# EAGLE library part ISO150 (library burr-brown)
Dual, Isolated, Bi-Directional Digital Coupler
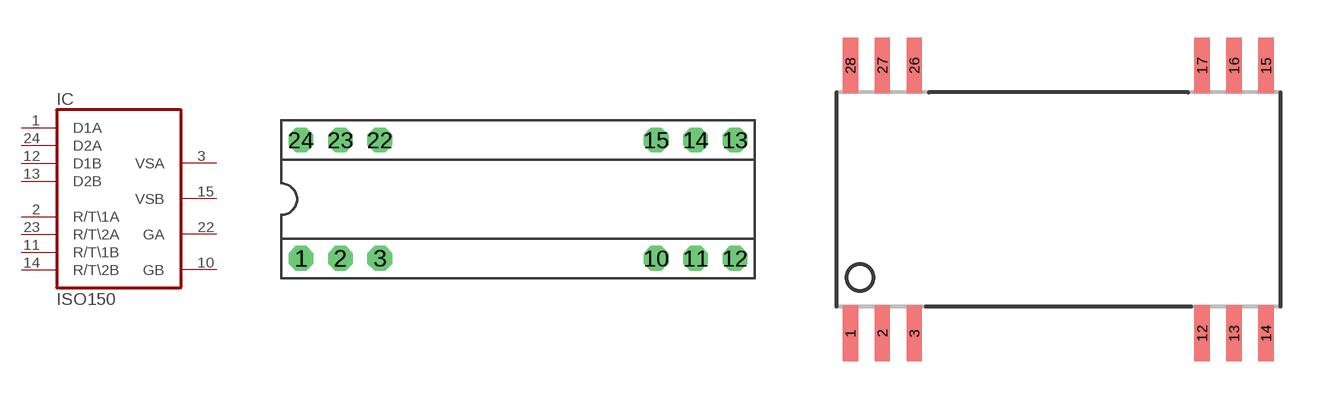
[diagram p166: symbol with the pads of DIL24/12; footprints DIL24/12, SO28-3/12]

Designator prefix IC

## ISO150P  [DIL24/12]
1  D1A
2  R/T\1A  in
3  VSA  pwr
10  GB  pwr
11  R/T\1B  in
12  D1B
13  D2B
14  R/T\2B  in
15  VSB  pwr
22  GA  pwr
23  R/T\2A  in
24  D2A

## ISO150U  [SO28-3/12]
1  D1A
2  R/T\1A  in
3  VSA  pwr
12  GB  pwr
13  R/T\1B  in
14  D1B
15  D2B
16  R/T\2B  in
17  VSB  pwr
26  GA  pwr
27  R/T\2A  in
28  D2A

## Footprint DIL24/12 (pad centres in mm)
Dual In Line
drill 0.813 pad 1.6 octagon: 1 -13.97,-3.81; 2 -11.43,-3.81; 3 -8.89,-3.81; 10 8.89,-3.81; 11 11.43,-3.81; 12 13.97,-3.81; 13 13.97,3.81; 14 11.43,3.81; 15 8.89,3.81; 22 -8.89,3.81; 23 -11.43,3.81; 24 -13.97,3.81

## Footprint SO28-3/12 (pad centres in mm)
Small Outline Package
smd 0.61 x 2.21: 1 -8.255,-5.315; 2 -6.985,-5.315; 3 -5.715,-5.315; 12 5.715,-5.315; 13 6.985,-5.315; 14 8.255,-5.315; 15 8.255,5.315; 16 6.985,5.315; 17 5.715,5.315; 26 -5.715,5.315; 27 -6.985,5.315; 28 -8.255,5.315